# EAGLE library part 1752175 (library 1752175)
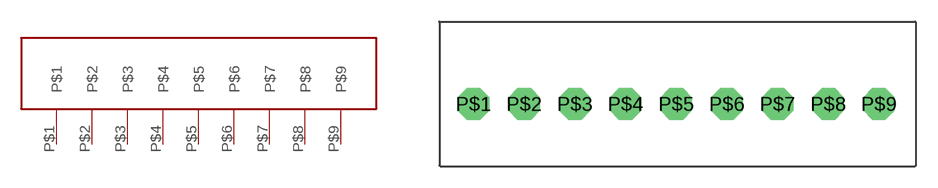
[diagram p0: symbol with the pads of 1752175; footprint 1752175]

Designator prefix -

## 1752175  [1752175]
P$1  P$1
P$2  P$2
P$3  P$3
P$4  P$4
P$5  P$5
P$6  P$6
P$7  P$7
P$8  P$8
P$9  P$9

## Footprint 1752175 (pad centres in mm)
drill 1.2 pad 2.184 octagon: P$1 0,0; P$2 3.5,0; P$3 7,0; P$4 10.5,0; P$5 14,0; P$6 17.5,0; P$7 21,0; P$8 24.5,0; P$9 28,0